# Altium integrated library FSC Logic Register.IntLib: 60 symbols (part 1 of 2)
Pins are listed as number, name and electrical type; pins without a type are passive.

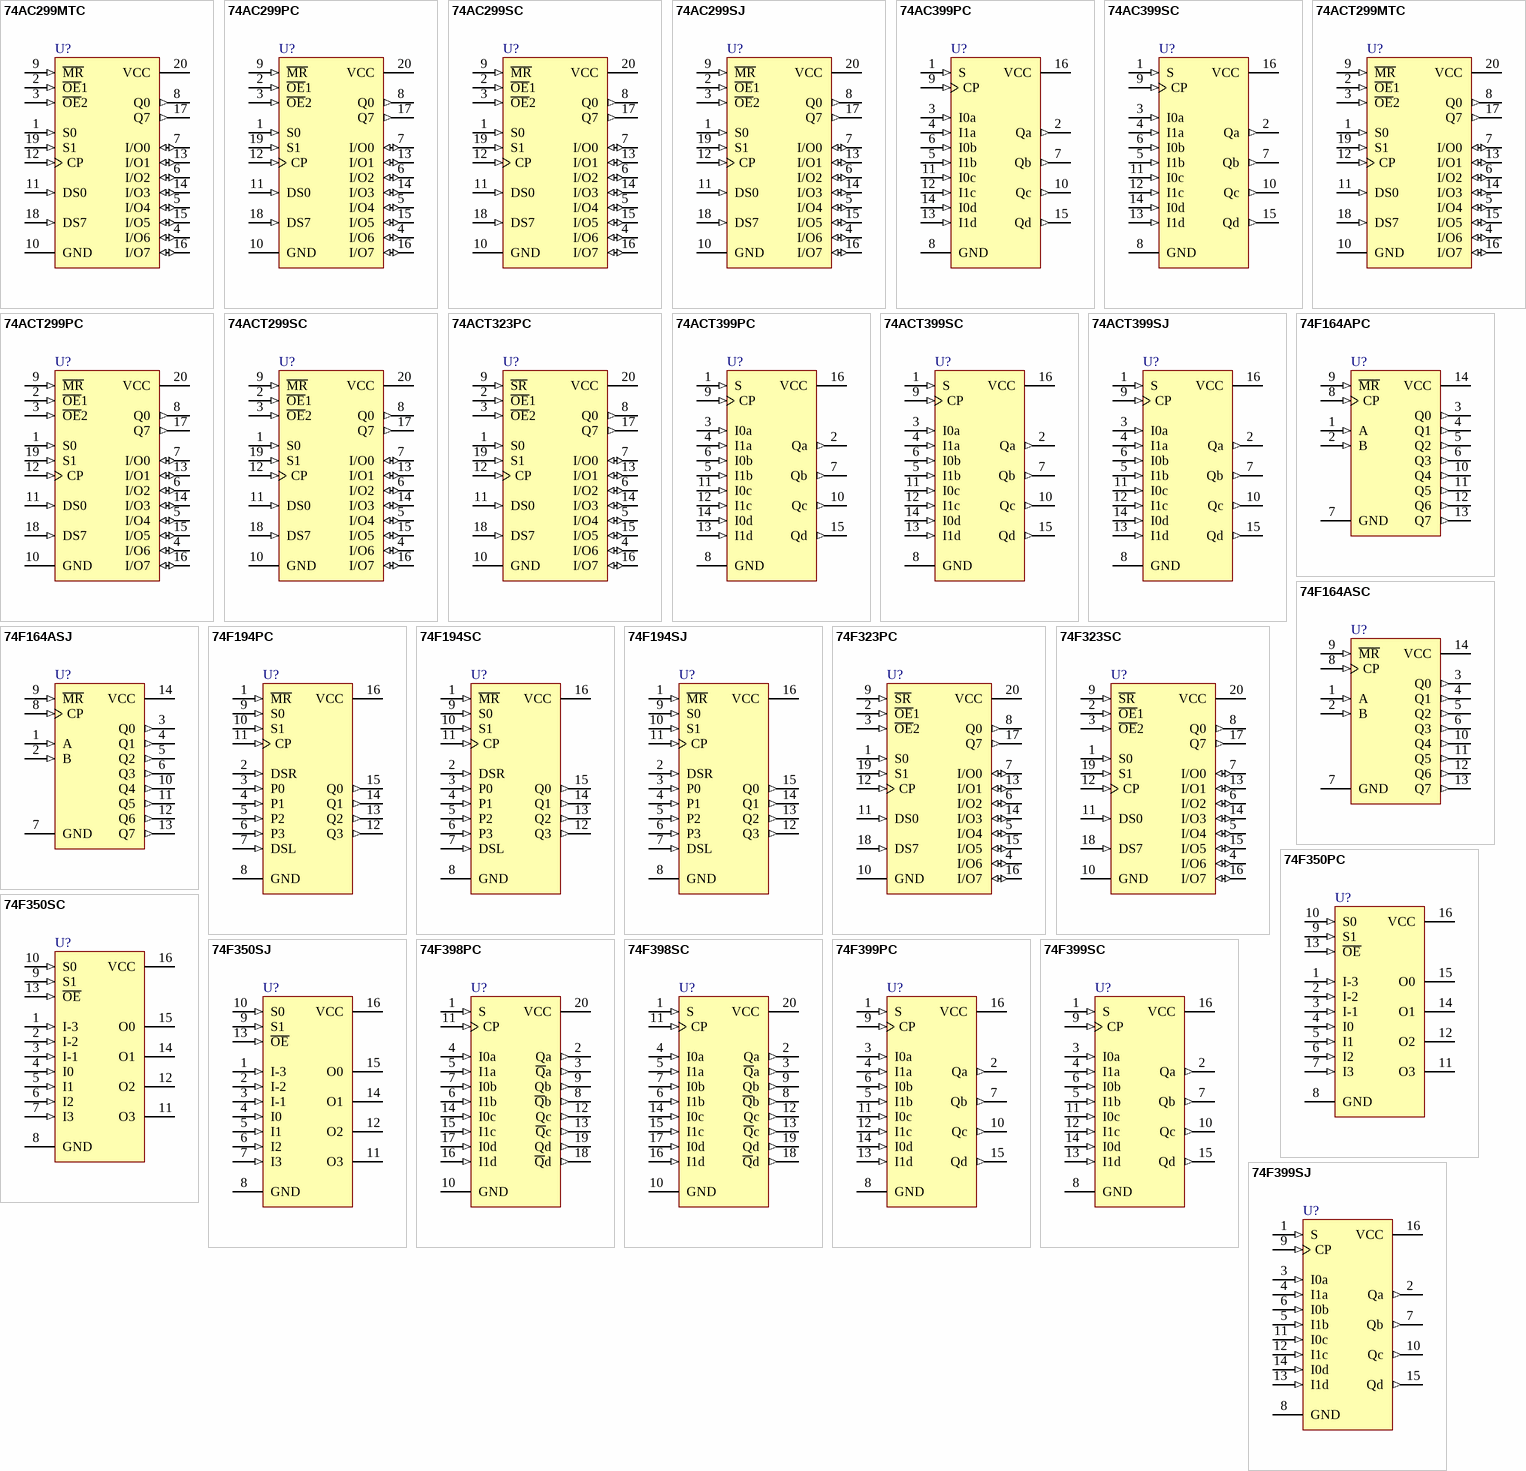
[diagram p0: symbols 74AC299MTC to 74F399SJ]

## 74AC299MTC
designator U?
8-Input Universal Shift/Storage Register with Common Parallel I/O Pin; Published: 17-Jul-2002; LatestRevisionDate: 29-May-2009; LatestRevisionNote: IPC-7351 Footprint Added.; DatasheetVersion: Nov-1999; PackageVersion: 2000; PackageReference: MTC20; Publisher: Altium Limited; PackageDescription: 20-Pin Thin Small Outline Package 0.65 mm Pitch; ComponentLink1Description: Manufacturer Link; ComponentLink1URL: http://www.fairchildsemi.com/; ComponentLink2Description: Datasheet; ComponentLink2URL: http://www.fairchildsemi.com/ds/74%2F74AC299.pdf
footprint MTC20_N (TSOP, 20-Leads, Body 6.5x4.4mm, Pitch 0.65mm, IPC Medium Density)
footprint MTC20_L (TSOP, 20-Leads, Body 6.5x4.4mm, Pitch 0.65mm, IPC High Density)
footprint MTC20_M (TSOP, 20-Leads, Body 6.5x4.4mm, Pitch 0.65mm, IPC Low Density)
3D model MTC20 (20-Pin Thin Small Outline Package 0.65 mm Pitch)
signal-integrity model 74AC299MTC
pins: 1 S0 (in), 2 ~{OE}1 (in), 3 ~{OE}2 (in), 4 I/O6 (io), 5 I/O4 (io), 6 I/O2 (io), 7 I/O0 (io), 8 Q0 (out), 9 ~{MR} (in), 10 GND (power), 11 DS0 (in), 12 CP (in), 13 I/O1 (io), 14 I/O3 (io), 15 I/O5 (io), 16 I/O7 (io), 17 Q7 (out), 18 DS7 (in), 19 S1 (in), 20 VCC (power)

## 74AC299PC
designator U?
8-Input Universal Shift/Storage Register with Common Parallel I/O Pin; Published: 17-Jul-2002; LatestRevisionDate: 29-May-2009; LatestRevisionNote: Component Body Added.; DatasheetVersion: Nov-1999; PackageVersion: 2000; PackageReference: N20A; Publisher: Altium Limited; PackageDescription: DIP, 20-Pin, Row Spacing 7.62 mm, Pitch 2.54 mm; Code_JEDEC: MS-001-AD; ComponentLink1Description: Manufacturer Link; ComponentLink1URL: http://www.fairchildsemi.com/; ComponentLink2Description: Datasheet; ComponentLink2URL: http://www.fairchildsemi.com/ds/74%2F74AC299.pdf
footprint N20A (DIP, 20-Leads, Row Spacing 7.62mm, Pitch 2.54mm, Body 26.07x6.6mm)
3D model N20A (DIP, 20-Pin, Row Spacing 7.62 mm, Pitch 2.54 mm)
signal-integrity model 74AC299PC
pins: 1 S0 (in), 2 ~{OE}1 (in), 3 ~{OE}2 (in), 4 I/O6 (io), 5 I/O4 (io), 6 I/O2 (io), 7 I/O0 (io), 8 Q0 (out), 9 ~{MR} (in), 10 GND (power), 11 DS0 (in), 12 CP (in), 13 I/O1 (io), 14 I/O3 (io), 15 I/O5 (io), 16 I/O7 (io), 17 Q7 (out), 18 DS7 (in), 19 S1 (in), 20 VCC (power)

## 74AC299SC
designator U?
8-Input Universal Shift/Storage Register with Common Parallel I/O Pin; Published: 17-Jul-2002; LatestRevisionDate: 13-Apr-2006; LatestRevisionNote: IPC-7351 Footprint Added.; DatasheetVersion: Nov-1999; PackageVersion: 2000; PackageReference: M20B; Publisher: Altium Limited; PackageDescription: 20-Pin Small Outline Integrated Circuit 1.27 mm Pitch; Code_JEDEC: MS-013-AC; Code_IPC: SOIC127P1030-20; ComponentLink1Description: Manufacturer Link; ComponentLink1URL: http://www.fairchildsemi.com/; ComponentLink2Description: Datasheet; ComponentLink2URL: http://www.fairchildsemi.com/ds/74%2F74AC299.pdf
footprint M20B_N (SOIC, 20-Leads, Body 12.8x7.5mm, Pitch 1.27mm, IPC Medium Density)
footprint M20B_L (SOIC, 20-Leads, Body 12.8x7.5mm, Pitch 1.27mm, IPC High Density)
footprint M20B_M (SOIC, 20-Leads, Body 12.8x7.5mm, Pitch 1.27mm, IPC Low Density)
3D model M20B (20-Pin Small Outline Integrated Circuit 1.27 mm Pitch)
signal-integrity model 74AC299SC
pins: 1 S0 (in), 2 ~{OE}1 (in), 3 ~{OE}2 (in), 4 I/O6 (io), 5 I/O4 (io), 6 I/O2 (io), 7 I/O0 (io), 8 Q0 (out), 9 ~{MR} (in), 10 GND (power), 11 DS0 (in), 12 CP (in), 13 I/O1 (io), 14 I/O3 (io), 15 I/O5 (io), 16 I/O7 (io), 17 Q7 (out), 18 DS7 (in), 19 S1 (in), 20 VCC (power)

## 74AC299SJ
designator U?
8-Input Universal Shift/Storage Register with Common Parallel I/O Pin; Published: 17-Jul-2002; LatestRevisionDate: 13-Apr-2006; LatestRevisionNote: IPC-7351 Footprint Added.; DatasheetVersion: Nov-1999; PackageVersion: 2000; PackageReference: M20D; Publisher: Altium Limited; PackageDescription: 20-Pin Small Outline Package 1.27 mm Pitch; ComponentLink1Description: Manufacturer Link; ComponentLink1URL: http://www.fairchildsemi.com/; ComponentLink2Description: Datasheet; ComponentLink2URL: http://www.fairchildsemi.com/ds/74%2F74AC299.pdf
footprint M20D_N (SOP, 20-Leads, Body 12.6x5.3mm, Pitch 1.27mm, IPC Medium Density)
footprint M20D_L (SOP, 20-Leads, Body 12.6x5.3mm, Pitch 1.27mm, IPC High Density)
footprint M20D_M (SOP, 20-Leads, Body 12.6x5.3mm, Pitch 1.27mm, IPC Low Density)
3D model M20D (20-Pin Small Outline Package 1.27 mm Pitch)
signal-integrity model 74AC299SJ
pins: 1 S0 (in), 2 ~{OE}1 (in), 3 ~{OE}2 (in), 4 I/O6 (io), 5 I/O4 (io), 6 I/O2 (io), 7 I/O0 (io), 8 Q0 (out), 9 ~{MR} (in), 10 GND (power), 11 DS0 (in), 12 CP (in), 13 I/O1 (io), 14 I/O3 (io), 15 I/O5 (io), 16 I/O7 (io), 17 Q7 (out), 18 DS7 (in), 19 S1 (in), 20 VCC (power)

## 74AC399PC
designator U?
Quad 2-Port Register; Published: 17-Jul-2002; LatestRevisionDate: 29-May-2009; LatestRevisionNote: Component Body Added.; DatasheetVersion: Nov-1999; PackageVersion: 2000; PackageReference: N16E; Publisher: Altium Limited; PackageDescription: DIP, 16-Pin, Row Spacing 7.62 mm, Pitch 2.54 mm; ComponentLink1Description: Manufacturer Link; ComponentLink1URL: http://www.fairchildsemi.com/; ComponentLink2Description: Datasheet; ComponentLink2URL: http://www.fairchildsemi.com/ds/74%2F74ACT399.pdf
footprint N16E (DIP, 16-Leads, Row Spacing 7.62mm, Pitch 2.54mm, Body 19.3x6.35mm)
3D model N16E (DIP, 16-Pin, Row Spacing 7.62 mm, Pitch 2.54 mm)
signal-integrity model 74AC399PC
pins: 1 S (in), 2 Qa (out), 3 I0a (in), 4 I1a (in), 5 I1b (in), 6 I0b (in), 7 Qb (out), 8 GND (power), 9 CP (in), 10 Qc (out), 11 I0c (in), 12 I1c (in), 13 I1d (in), 14 I0d (in), 15 Qd (out), 16 VCC (power)

## 74AC399SC
designator U?
Quad 2-Port Register; Published: 17-Jul-2002; LatestRevisionDate: 13-Apr-2006; LatestRevisionNote: IPC-7351 Footprint Added.; DatasheetVersion: Nov-1999; PackageVersion: 2000; PackageReference: M16A; Publisher: Altium Limited; PackageDescription: 16-Pin Small Outline Integrated Circuit 1.27 mm Pitch; Code_IPC: SOIC127P600-16; ComponentLink1Description: Manufacturer Link; ComponentLink1URL: http://www.fairchildsemi.com/; ComponentLink2Description: Datasheet; ComponentLink2URL: http://www.fairchildsemi.com/ds/74%2F74ACT399.pdf
footprint M16A_N (SOIC, 16-Leads, Body 9.9x3.9mm, Pitch 1.27mm, IPC Medium Density)
footprint M16A_L (SOIC, 16-Leads, Body 9.9x3.9mm, Pitch 1.27mm, IPC High Density)
footprint M16A_M (SOIC, 16-Leads, Body 9.9x3.9mm, Pitch 1.27mm, IPC Low Density)
3D model M16A (16-Pin Small Outline Integrated Circuit 1.27 mm Pitch)
signal-integrity model 74AC399SC
pins: 1 S (in), 2 Qa (out), 3 I0a (in), 4 I1a (in), 5 I1b (in), 6 I0b (in), 7 Qb (out), 8 GND (power), 9 CP (in), 10 Qc (out), 11 I0c (in), 12 I1c (in), 13 I1d (in), 14 I0d (in), 15 Qd (out), 16 VCC (power)

## 74ACT299MTC
designator U?
8-Input Universal Shift/Storage Register with Common Parallel I/O Pin; Published: 17-Jul-2002; LatestRevisionDate: 29-May-2009; LatestRevisionNote: IPC-7351 Footprint Added.; DatasheetVersion: Nov-1999; PackageVersion: 2000; PackageReference: MTC20; Publisher: Altium Limited; PackageDescription: 20-Pin Thin Small Outline Package 0.65 mm Pitch; ComponentLink1Description: Manufacturer Link; ComponentLink1URL: http://www.fairchildsemi.com/; ComponentLink2Description: Datasheet; ComponentLink2URL: http://www.fairchildsemi.com/ds/74%2F74AC299.pdf
footprint MTC20_N (TSOP, 20-Leads, Body 6.5x4.4mm, Pitch 0.65mm, IPC Medium Density)
footprint MTC20_L (TSOP, 20-Leads, Body 6.5x4.4mm, Pitch 0.65mm, IPC High Density)
footprint MTC20_M (TSOP, 20-Leads, Body 6.5x4.4mm, Pitch 0.65mm, IPC Low Density)
3D model MTC20 (20-Pin Thin Small Outline Package 0.65 mm Pitch)
signal-integrity model 74ACT299MTC
pins: 1 S0 (in), 2 ~{OE}1 (in), 3 ~{OE}2 (in), 4 I/O6 (io), 5 I/O4 (io), 6 I/O2 (io), 7 I/O0 (io), 8 Q0 (out), 9 ~{MR} (in), 10 GND (power), 11 DS0 (in), 12 CP (in), 13 I/O1 (io), 14 I/O3 (io), 15 I/O5 (io), 16 I/O7 (io), 17 Q7 (out), 18 DS7 (in), 19 S1 (in), 20 VCC (power)

## 74ACT299PC
designator U?
8-Input Universal Shift/Storage Register with Common Parallel I/O Pin; Published: 17-Jul-2002; LatestRevisionDate: 29-May-2009; LatestRevisionNote: Component Body Added.; DatasheetVersion: Nov-1999; PackageVersion: 2000; PackageReference: N20A; Publisher: Altium Limited; PackageDescription: DIP, 20-Pin, Row Spacing 7.62 mm, Pitch 2.54 mm; Code_JEDEC: MS-001-AD; ComponentLink1Description: Manufacturer Link; ComponentLink1URL: http://www.fairchildsemi.com/; ComponentLink2Description: Datasheet; ComponentLink2URL: http://www.fairchildsemi.com/ds/74%2F74AC299.pdf
footprint N20A (DIP, 20-Leads, Row Spacing 7.62mm, Pitch 2.54mm, Body 26.07x6.6mm)
3D model N20A (DIP, 20-Pin, Row Spacing 7.62 mm, Pitch 2.54 mm)
signal-integrity model 74ACT299PC
pins: 1 S0 (in), 2 ~{OE}1 (in), 3 ~{OE}2 (in), 4 I/O6 (io), 5 I/O4 (io), 6 I/O2 (io), 7 I/O0 (io), 8 Q0 (out), 9 ~{MR} (in), 10 GND (power), 11 DS0 (in), 12 CP (in), 13 I/O1 (io), 14 I/O3 (io), 15 I/O5 (io), 16 I/O7 (io), 17 Q7 (out), 18 DS7 (in), 19 S1 (in), 20 VCC (power)

## 74ACT299SC
designator U?
8-Input Universal Shift/Storage Register with Common Parallel I/O Pin; Published: 17-Jul-2002; LatestRevisionDate: 13-Apr-2006; LatestRevisionNote: IPC-7351 Footprint Added.; DatasheetVersion: Nov-1999; PackageVersion: 2000; PackageReference: M20B; Publisher: Altium Limited; PackageDescription: 20-Pin Small Outline Integrated Circuit 1.27 mm Pitch; Code_JEDEC: MS-013-AC; Code_IPC: SOIC127P1030-20; ComponentLink1Description: Manufacturer Link; ComponentLink1URL: http://www.fairchildsemi.com/; ComponentLink2Description: Datasheet; ComponentLink2URL: http://www.fairchildsemi.com/ds/74%2F74AC299.pdf
footprint M20B_N (SOIC, 20-Leads, Body 12.8x7.5mm, Pitch 1.27mm, IPC Medium Density)
footprint M20B_L (SOIC, 20-Leads, Body 12.8x7.5mm, Pitch 1.27mm, IPC High Density)
footprint M20B_M (SOIC, 20-Leads, Body 12.8x7.5mm, Pitch 1.27mm, IPC Low Density)
3D model M20B (20-Pin Small Outline Integrated Circuit 1.27 mm Pitch)
signal-integrity model 74ACT299SC
pins: 1 S0 (in), 2 ~{OE}1 (in), 3 ~{OE}2 (in), 4 I/O6 (io), 5 I/O4 (io), 6 I/O2 (io), 7 I/O0 (io), 8 Q0 (out), 9 ~{MR} (in), 10 GND (power), 11 DS0 (in), 12 CP (in), 13 I/O1 (io), 14 I/O3 (io), 15 I/O5 (io), 16 I/O7 (io), 17 Q7 (out), 18 DS7 (in), 19 S1 (in), 20 VCC (power)

## 74ACT323PC
designator U?
8-Bit Universal Shift/Storage Register with Synchronous Reset and Common I/O Pin; Published: 17-Jul-2002; LatestRevisionDate: 29-May-2009; LatestRevisionNote: Component Body Added.; DatasheetVersion: Oct-1998; PackageVersion: 2000; PackageReference: N20A; Publisher: Altium Limited; PackageDescription: DIP, 20-Pin, Row Spacing 7.62 mm, Pitch 2.54 mm; Code_JEDEC: MS-001-AD; ComponentLink1Description: Manufacturer Link; ComponentLink1URL: http://www.fairchildsemi.com/; ComponentLink2Description: Datasheet; ComponentLink2URL: http://www.fairchildsemi.com/ds/74%2F74ACT323.pdf
footprint N20A (DIP, 20-Leads, Row Spacing 7.62mm, Pitch 2.54mm, Body 26.07x6.6mm)
3D model N20A (DIP, 20-Pin, Row Spacing 7.62 mm, Pitch 2.54 mm)
signal-integrity model 74ACT323PC
pins: 1 S0 (in), 2 ~{OE}1 (in), 3 ~{OE}2 (in), 4 I/O6 (io), 5 I/O4 (io), 6 I/O2 (io), 7 I/O0 (io), 8 Q0 (out), 9 ~{SR} (in), 10 GND (power), 11 DS0 (in), 12 CP (in), 13 I/O1 (io), 14 I/O3 (io), 15 I/O5 (io), 16 I/O7 (io), 17 Q7 (out), 18 DS7 (in), 19 S1 (in), 20 VCC (power)

## 74ACT399PC
designator U?
Quad 2-Port Register; Published: 17-Jul-2002; LatestRevisionDate: 29-May-2009; LatestRevisionNote: Component Body Added.; DatasheetVersion: Nov-1999; PackageVersion: 2000; PackageReference: N16E; Publisher: Altium Limited; PackageDescription: DIP, 16-Pin, Row Spacing 7.62 mm, Pitch 2.54 mm; ComponentLink1Description: Manufacturer Link; ComponentLink1URL: http://www.fairchildsemi.com/; ComponentLink2Description: Datasheet; ComponentLink2URL: http://www.fairchildsemi.com/ds/74%2F74ACT399.pdf
footprint N16E (DIP, 16-Leads, Row Spacing 7.62mm, Pitch 2.54mm, Body 19.3x6.35mm)
3D model N16E (DIP, 16-Pin, Row Spacing 7.62 mm, Pitch 2.54 mm)
signal-integrity model 74ACT399PC
pins: 1 S (in), 2 Qa (out), 3 I0a (in), 4 I1a (in), 5 I1b (in), 6 I0b (in), 7 Qb (out), 8 GND (power), 9 CP (in), 10 Qc (out), 11 I0c (in), 12 I1c (in), 13 I1d (in), 14 I0d (in), 15 Qd (out), 16 VCC (power)

## 74ACT399SC
designator U?
Quad 2-Port Register; Published: 17-Jul-2002; LatestRevisionDate: 13-Apr-2006; LatestRevisionNote: IPC-7351 Footprint Added.; DatasheetVersion: Nov-1999; PackageVersion: 2000; PackageReference: M16A; Publisher: Altium Limited; PackageDescription: 16-Pin Small Outline Integrated Circuit 1.27 mm Pitch; Code_IPC: SOIC127P600-16; ComponentLink1Description: Manufacturer Link; ComponentLink1URL: http://www.fairchildsemi.com/; ComponentLink2Description: Datasheet; ComponentLink2URL: http://www.fairchildsemi.com/ds/74%2F74ACT399.pdf
footprint M16A_N (SOIC, 16-Leads, Body 9.9x3.9mm, Pitch 1.27mm, IPC Medium Density)
footprint M16A_L (SOIC, 16-Leads, Body 9.9x3.9mm, Pitch 1.27mm, IPC High Density)
footprint M16A_M (SOIC, 16-Leads, Body 9.9x3.9mm, Pitch 1.27mm, IPC Low Density)
3D model M16A (16-Pin Small Outline Integrated Circuit 1.27 mm Pitch)
signal-integrity model 74ACT399SC
pins: 1 S (in), 2 Qa (out), 3 I0a (in), 4 I1a (in), 5 I1b (in), 6 I0b (in), 7 Qb (out), 8 GND (power), 9 CP (in), 10 Qc (out), 11 I0c (in), 12 I1c (in), 13 I1d (in), 14 I0d (in), 15 Qd (out), 16 VCC (power)

## 74ACT399SJ
designator U?
Quad 2-Port Register; Published: 17-Jul-2002; LatestRevisionDate: 13-Apr-2006; LatestRevisionNote: IPC-7351 Footprint Added.; DatasheetVersion: Nov-1999; PackageVersion: 2000; PackageReference: M16D; Publisher: Altium Limited; PackageDescription: 16-Pin Small Outline Package 1.27 mm Pitch; ComponentLink1Description: Manufacturer Link; ComponentLink1URL: http://www.fairchildsemi.com/; ComponentLink2Description: Datasheet; ComponentLink2URL: http://www.fairchildsemi.com/ds/74%2F74ACT399.pdf
footprint M16D_N (SOP, 16-Leads, Body 10.1x5.3mm, Pitch 1.27mm, IPC Medium Density)
footprint M16D_L (SOP, 16-Leads, Body 10.1x5.3mm, Pitch 1.27mm, IPC High Density)
footprint M16D_M (SOP, 16-Leads, Body 10.1x5.3mm, Pitch 1.27mm, IPC Low Density)
3D model M16D (16-Pin Small Outline Package 1.27 mm Pitch)
signal-integrity model 74ACT399SJ
pins: 1 S (in), 2 Qa (out), 3 I0a (in), 4 I1a (in), 5 I1b (in), 6 I0b (in), 7 Qb (out), 8 GND (power), 9 CP (in), 10 Qc (out), 11 I0c (in), 12 I1c (in), 13 I1d (in), 14 I0d (in), 15 Qd (out), 16 VCC (power)

## 74F164APC
designator U?
Serial-In, Parallel-Out Shift Register; Note: Generic simulation model provided.; Published: 17-Jul-2002; LatestRevisionDate: 29-May-2009; LatestRevisionNote: Component Body Added.; DatasheetVersion: Aug-1999; PackageVersion: 2000; PackageReference: N14A; Publisher: Altium Limited; PackageDescription: DIP, 14-Pin, Row Spacing 7.62 mm, Pitch 2.54 mm; ComponentLink1Description: Manufacturer Link; ComponentLink1URL: http://www.fairchildsemi.com/; ComponentLink2Description: Datasheet; ComponentLink2URL: http://www.fairchildsemi.com/ds/74%2F74F164A.pdf
footprint N14A (DIP, 14-Leads, Row Spacing 7.62mm, Pitch 2.54mm, Body 19.18x6.35mm)
3D model N14A (DIP, 14-Pin, Row Spacing 7.62 mm, Pitch 2.54 mm)
simulation model 74F164 (SIMCODE)
signal-integrity model 74F164APC
pins: 1 A (in), 2 B (in), 3 Q0 (out), 4 Q1 (out), 5 Q2 (out), 6 Q3 (out), 7 GND (power), 8 CP (in), 9 ~{MR} (in), 10 Q4 (out), 11 Q5 (out), 12 Q6 (out), 13 Q7 (out), 14 VCC (power)

## 74F164ASC
designator U?
Serial-In, Parallel-Out Shift Register; Note: Generic simulation model provided.; Published: 17-Jul-2002; LatestRevisionDate: 13-Apr-2006; LatestRevisionNote: IPC-7351 Footprint Added.; DatasheetVersion: Aug-1999; PackageVersion: 2000; PackageReference: M14A; Publisher: Altium Limited; PackageDescription: 14-Pin Small Outline Integrated Circuit 1.27 mm Pitch; Code_IPC: SOIC127P600-14; ComponentLink1Description: Manufacturer Link; ComponentLink1URL: http://www.fairchildsemi.com/; ComponentLink2Description: Datasheet; ComponentLink2URL: http://www.fairchildsemi.com/ds/74%2F74F164A.pdf
footprint M14A_N (SOIC, 14-Leads, Body 8.6x3.9mm, Pitch 1.27mm, IPC Medium Density)
footprint M14A_L (SOIC, 14-Leads, Body 8.6x3.9mm, Pitch 1.27mm, IPC High Density)
footprint M14A_M (SOIC, 14-Leads, Body 8.6x3.9mm, Pitch 1.27mm, IPC Low Density)
3D model M14A (14-Pin Small Outline Integrated Circuit 1.27 mm Pitch)
simulation model 74F164 (SIMCODE)
signal-integrity model 74F164ASC
pins: 1 A (in), 2 B (in), 3 Q0 (out), 4 Q1 (out), 5 Q2 (out), 6 Q3 (out), 7 GND (power), 8 CP (in), 9 ~{MR} (in), 10 Q4 (out), 11 Q5 (out), 12 Q6 (out), 13 Q7 (out), 14 VCC (power)

## 74F164ASJ
designator U?
Serial-In, Parallel-Out Shift Register; Note: Generic simulation model provided.; Published: 17-Jul-2002; LatestRevisionDate: 13-Apr-2006; LatestRevisionNote: IPC-7351 Footprint Added.; DatasheetVersion: Aug-1999; PackageVersion: 2000; PackageReference: M14D; Publisher: Altium Limited; PackageDescription: 14-Pin Small Outline Package 1.27 mm Pitch; ComponentLink1Description: Manufacturer Link; ComponentLink1URL: http://www.fairchildsemi.com/; ComponentLink2Description: Datasheet; ComponentLink2URL: http://www.fairchildsemi.com/ds/74%2F74F164A.pdf
footprint M14D_N (SOP, 14-Leads, Body 10.1x5.3mm, Pitch 1.27mm, IPC Medium Density)
footprint M14D_L (SOP, 14-Leads, Body 10.1x5.3mm, Pitch 1.27mm, IPC High Density)
footprint M14D_M (SOP, 14-Leads, Body 10.1x5.3mm, Pitch 1.27mm, IPC Low Density)
3D model M14D (14-Pin Small Outline Package 1.27 mm Pitch)
simulation model 74F164 (SIMCODE)
signal-integrity model 74F164ASJ
pins: 1 A (in), 2 B (in), 3 Q0 (out), 4 Q1 (out), 5 Q2 (out), 6 Q3 (out), 7 GND (power), 8 CP (in), 9 ~{MR} (in), 10 Q4 (out), 11 Q5 (out), 12 Q6 (out), 13 Q7 (out), 14 VCC (power)

## 74F194PC
designator U?
4-Bit Bidirectional Universal Shift Register; Note: Generic simulation model provided.; Published: 17-Jul-2002; LatestRevisionDate: 29-May-2009; LatestRevisionNote: Component Body Added.; DatasheetVersion: Jul-1999; PackageVersion: 2000; PackageReference: N16E; Publisher: Altium Limited; PackageDescription: DIP, 16-Pin, Row Spacing 7.62 mm, Pitch 2.54 mm; ComponentLink1Description: Manufacturer Link; ComponentLink1URL: http://www.fairchildsemi.com/; ComponentLink2Description: Datasheet; ComponentLink2URL: http://www.fairchildsemi.com/ds/74%2F74F194.pdf
footprint N16E (DIP, 16-Leads, Row Spacing 7.62mm, Pitch 2.54mm, Body 19.3x6.35mm)
3D model N16E (DIP, 16-Pin, Row Spacing 7.62 mm, Pitch 2.54 mm)
simulation model 74F194 (SIMCODE)
signal-integrity model 74F194PC
pins: 1 ~{MR} (in), 2 DSR (in), 3 P0 (in), 4 P1 (in), 5 P2 (in), 6 P3 (in), 7 DSL (in), 8 GND (power), 9 S0 (in), 10 S1 (in), 11 CP (in), 12 Q3 (out), 13 Q2 (out), 14 Q1 (out), 15 Q0 (out), 16 VCC (power)

## 74F194SC
designator U?
4-Bit Bidirectional Universal Shift Register; Note: Generic simulation model provided.; Published: 17-Jul-2002; LatestRevisionDate: 13-Apr-2006; LatestRevisionNote: IPC-7351 Footprint Added.; DatasheetVersion: Jul-1999; PackageVersion: 2000; PackageReference: M16A; Publisher: Altium Limited; PackageDescription: 16-Pin Small Outline Integrated Circuit 1.27 mm Pitch; Code_IPC: SOIC127P600-16; ComponentLink1Description: Manufacturer Link; ComponentLink1URL: http://www.fairchildsemi.com/; ComponentLink2Description: Datasheet; ComponentLink2URL: http://www.fairchildsemi.com/ds/74%2F74F194.pdf
footprint M16A_N (SOIC, 16-Leads, Body 9.9x3.9mm, Pitch 1.27mm, IPC Medium Density)
footprint M16A_L (SOIC, 16-Leads, Body 9.9x3.9mm, Pitch 1.27mm, IPC High Density)
footprint M16A_M (SOIC, 16-Leads, Body 9.9x3.9mm, Pitch 1.27mm, IPC Low Density)
3D model M16A (16-Pin Small Outline Integrated Circuit 1.27 mm Pitch)
simulation model 74F194 (SIMCODE)
signal-integrity model 74F194SC
pins: 1 ~{MR} (in), 2 DSR (in), 3 P0 (in), 4 P1 (in), 5 P2 (in), 6 P3 (in), 7 DSL (in), 8 GND (power), 9 S0 (in), 10 S1 (in), 11 CP (in), 12 Q3 (out), 13 Q2 (out), 14 Q1 (out), 15 Q0 (out), 16 VCC (power)

## 74F194SJ
designator U?
4-Bit Bidirectional Universal Shift Register; Note: Generic simulation model provided.; Published: 17-Jul-2002; LatestRevisionDate: 13-Apr-2006; LatestRevisionNote: IPC-7351 Footprint Added.; DatasheetVersion: Jul-1999; PackageVersion: 2000; PackageReference: M16D; Publisher: Altium Limited; PackageDescription: 16-Pin Small Outline Package 1.27 mm Pitch; ComponentLink1Description: Manufacturer Link; ComponentLink1URL: http://www.fairchildsemi.com/; ComponentLink2Description: Datasheet; ComponentLink2URL: http://www.fairchildsemi.com/ds/74%2F74F194.pdf
footprint M16D_N (SOP, 16-Leads, Body 10.1x5.3mm, Pitch 1.27mm, IPC Medium Density)
footprint M16D_L (SOP, 16-Leads, Body 10.1x5.3mm, Pitch 1.27mm, IPC High Density)
footprint M16D_M (SOP, 16-Leads, Body 10.1x5.3mm, Pitch 1.27mm, IPC Low Density)
3D model M16D (16-Pin Small Outline Package 1.27 mm Pitch)
simulation model 74F194 (SIMCODE)
signal-integrity model 74F194SJ
pins: 1 ~{MR} (in), 2 DSR (in), 3 P0 (in), 4 P1 (in), 5 P2 (in), 6 P3 (in), 7 DSL (in), 8 GND (power), 9 S0 (in), 10 S1 (in), 11 CP (in), 12 Q3 (out), 13 Q2 (out), 14 Q1 (out), 15 Q0 (out), 16 VCC (power)

## 74F323PC
designator U?
Octal Universal Shift/Storage Register with Synchronous Reset and Common I/O Pin; Published: 17-Jul-2002; LatestRevisionDate: 29-May-2009; LatestRevisionNote: Component Body Added.; DatasheetVersion: Aug-1999; PackageVersion: 2000; PackageReference: N20A; Publisher: Altium Limited; PackageDescription: DIP, 20-Pin, Row Spacing 7.62 mm, Pitch 2.54 mm; Code_JEDEC: MS-001-AD; ComponentLink1Description: Manufacturer Link; ComponentLink1URL: http://www.fairchildsemi.com/
footprint N20A (DIP, 20-Leads, Row Spacing 7.62mm, Pitch 2.54mm, Body 26.07x6.6mm)
3D model N20A (DIP, 20-Pin, Row Spacing 7.62 mm, Pitch 2.54 mm)
signal-integrity model 74F323PC
pins: 1 S0 (in), 2 ~{OE}1 (in), 3 ~{OE}2 (in), 4 I/O6 (io), 5 I/O4 (io), 6 I/O2 (io), 7 I/O0 (io), 8 Q0 (out), 9 ~{SR} (in), 10 GND (power), 11 DS0 (in), 12 CP (in), 13 I/O1 (io), 14 I/O3 (io), 15 I/O5 (io), 16 I/O7 (io), 17 Q7 (out), 18 DS7 (in), 19 S1 (in), 20 VCC (power)

## 74F323SC
designator U?
Octal Universal Shift/Storage Register with Synchronous Reset and Common I/O Pin; Published: 17-Jul-2002; LatestRevisionDate: 13-Apr-2006; LatestRevisionNote: IPC-7351 Footprint Added.; DatasheetVersion: Aug-1999; PackageVersion: 2000; PackageReference: M20B; Publisher: Altium Limited; PackageDescription: 20-Pin Small Outline Integrated Circuit 1.27 mm Pitch; Code_JEDEC: MS-013-AC; Code_IPC: SOIC127P1030-20; ComponentLink1Description: Manufacturer Link; ComponentLink1URL: http://www.fairchildsemi.com/
footprint M20B_N (SOIC, 20-Leads, Body 12.8x7.5mm, Pitch 1.27mm, IPC Medium Density)
footprint M20B_L (SOIC, 20-Leads, Body 12.8x7.5mm, Pitch 1.27mm, IPC High Density)
footprint M20B_M (SOIC, 20-Leads, Body 12.8x7.5mm, Pitch 1.27mm, IPC Low Density)
3D model M20B (20-Pin Small Outline Integrated Circuit 1.27 mm Pitch)
signal-integrity model 74F323SC
pins: 1 S0 (in), 2 ~{OE}1 (in), 3 ~{OE}2 (in), 4 I/O6 (io), 5 I/O4 (io), 6 I/O2 (io), 7 I/O0 (io), 8 Q0 (out), 9 ~{SR} (in), 10 GND (power), 11 DS0 (in), 12 CP (in), 13 I/O1 (io), 14 I/O3 (io), 15 I/O5 (io), 16 I/O7 (io), 17 Q7 (out), 18 DS7 (in), 19 S1 (in), 20 VCC (power)

## 74F350PC
designator U?
4-Bit Shifter with 3-State Outputs; Published: 17-Jul-2002; LatestRevisionDate: 29-May-2009; LatestRevisionNote: Component Body Added.; DatasheetVersion: Aug-1999; PackageVersion: 2000; PackageReference: N16E; Publisher: Altium Limited; PackageDescription: DIP, 16-Pin, Row Spacing 7.62 mm, Pitch 2.54 mm; ComponentLink1Description: Manufacturer Link; ComponentLink1URL: http://www.fairchildsemi.com/
footprint N16E (DIP, 16-Leads, Row Spacing 7.62mm, Pitch 2.54mm, Body 19.3x6.35mm)
3D model N16E (DIP, 16-Pin, Row Spacing 7.62 mm, Pitch 2.54 mm)
signal-integrity model 74F350PC
pins: 1 I-3 (in), 2 I-2 (in), 3 I-1 (in), 4 I0 (in), 5 I1 (in), 6 I2 (in), 7 I3 (in), 8 GND (power), 9 S1 (in), 10 S0 (in), 11 O3 (hiz), 12 O2 (hiz), 13 ~{OE} (in), 14 O1 (hiz), 15 O0 (hiz), 16 VCC (power)

## 74F350SC
designator U?
4-Bit Shifter with 3-State Outputs; Published: 17-Jul-2002; LatestRevisionDate: 13-Apr-2006; LatestRevisionNote: IPC-7351 Footprint Added.; DatasheetVersion: Aug-1999; PackageVersion: 2000; PackageReference: M16A; Publisher: Altium Limited; PackageDescription: 16-Pin Small Outline Integrated Circuit 1.27 mm Pitch; Code_IPC: SOIC127P600-16; ComponentLink1Description: Manufacturer Link; ComponentLink1URL: http://www.fairchildsemi.com/
footprint M16A_N (SOIC, 16-Leads, Body 9.9x3.9mm, Pitch 1.27mm, IPC Medium Density)
footprint M16A_L (SOIC, 16-Leads, Body 9.9x3.9mm, Pitch 1.27mm, IPC High Density)
footprint M16A_M (SOIC, 16-Leads, Body 9.9x3.9mm, Pitch 1.27mm, IPC Low Density)
3D model M16A (16-Pin Small Outline Integrated Circuit 1.27 mm Pitch)
signal-integrity model 74F350SC
pins: 1 I-3 (in), 2 I-2 (in), 3 I-1 (in), 4 I0 (in), 5 I1 (in), 6 I2 (in), 7 I3 (in), 8 GND (power), 9 S1 (in), 10 S0 (in), 11 O3 (hiz), 12 O2 (hiz), 13 ~{OE} (in), 14 O1 (hiz), 15 O0 (hiz), 16 VCC (power)

## 74F350SJ
designator U?
4-Bit Shifter with 3-State Outputs; Published: 17-Jul-2002; LatestRevisionDate: 13-Apr-2006; LatestRevisionNote: IPC-7351 Footprint Added.; DatasheetVersion: Aug-1999; PackageVersion: 2000; PackageReference: M16D; Publisher: Altium Limited; PackageDescription: 16-Pin Small Outline Package 1.27 mm Pitch; ComponentLink1Description: Manufacturer Link; ComponentLink1URL: http://www.fairchildsemi.com/
footprint M16D_N (SOP, 16-Leads, Body 10.1x5.3mm, Pitch 1.27mm, IPC Medium Density)
footprint M16D_L (SOP, 16-Leads, Body 10.1x5.3mm, Pitch 1.27mm, IPC High Density)
footprint M16D_M (SOP, 16-Leads, Body 10.1x5.3mm, Pitch 1.27mm, IPC Low Density)
3D model M16D (16-Pin Small Outline Package 1.27 mm Pitch)
signal-integrity model 74F350SJ
pins: 1 I-3 (in), 2 I-2 (in), 3 I-1 (in), 4 I0 (in), 5 I1 (in), 6 I2 (in), 7 I3 (in), 8 GND (power), 9 S1 (in), 10 S0 (in), 11 O3 (hiz), 12 O2 (hiz), 13 ~{OE} (in), 14 O1 (hiz), 15 O0 (hiz), 16 VCC (power)

## 74F398PC
designator U?
Quad 2-Port Register; Published: 17-Jul-2002; LatestRevisionDate: 29-May-2009; LatestRevisionNote: Component Body Added.; DatasheetVersion: Aug-1999; PackageVersion: 2000; PackageReference: N20A; Publisher: Altium Limited; PackageDescription: DIP, 20-Pin, Row Spacing 7.62 mm, Pitch 2.54 mm; Code_JEDEC: MS-001-AD; ComponentLink1Description: Manufacturer Link; ComponentLink1URL: http://www.fairchildsemi.com/
footprint N20A (DIP, 20-Leads, Row Spacing 7.62mm, Pitch 2.54mm, Body 26.07x6.6mm)
3D model N20A (DIP, 20-Pin, Row Spacing 7.62 mm, Pitch 2.54 mm)
signal-integrity model 74F398PC
pins: 1 S (in), 2 Qa (out), 3 ~{Q}a (out), 4 I0a (in), 5 I1a (in), 6 I1b (in), 7 I0b (in), 8 ~{Q}b (out), 9 Qb (out), 10 GND (power), 11 CP (in), 12 Qc (out), 13 ~{Q}c (out), 14 I0c (in), 15 I1c (in), 16 I1d (in), 17 I0d (in), 18 ~{Q}d (out), 19 Qd (out), 20 VCC (power)

## 74F398SC
designator U?
Quad 2-Port Register; Published: 17-Jul-2002; LatestRevisionDate: 13-Apr-2006; LatestRevisionNote: IPC-7351 Footprint Added.; DatasheetVersion: Aug-1999; PackageVersion: 2000; PackageReference: M20B; Publisher: Altium Limited; PackageDescription: 20-Pin Small Outline Integrated Circuit 1.27 mm Pitch; Code_JEDEC: MS-013-AC; Code_IPC: SOIC127P1030-20; ComponentLink1Description: Manufacturer Link; ComponentLink1URL: http://www.fairchildsemi.com/
footprint M20B_N (SOIC, 20-Leads, Body 12.8x7.5mm, Pitch 1.27mm, IPC Medium Density)
footprint M20B_L (SOIC, 20-Leads, Body 12.8x7.5mm, Pitch 1.27mm, IPC High Density)
footprint M20B_M (SOIC, 20-Leads, Body 12.8x7.5mm, Pitch 1.27mm, IPC Low Density)
3D model M20B (20-Pin Small Outline Integrated Circuit 1.27 mm Pitch)
signal-integrity model 74F398SC
pins: 1 S (in), 2 Qa (out), 3 ~{Q}a (out), 4 I0a (in), 5 I1a (in), 6 I1b (in), 7 I0b (in), 8 ~{Q}b (out), 9 Qb (out), 10 GND (power), 11 CP (in), 12 Qc (out), 13 ~{Q}c (out), 14 I0c (in), 15 I1c (in), 16 I1d (in), 17 I0d (in), 18 ~{Q}d (out), 19 Qd (out), 20 VCC (power)

## 74F399PC
designator U?
Quad 2-Port Register; Published: 17-Jul-2002; LatestRevisionDate: 29-May-2009; LatestRevisionNote: Component Body Added.; DatasheetVersion: Aug-1999; PackageVersion: 2000; PackageReference: N16E; Publisher: Altium Limited; PackageDescription: DIP, 16-Pin, Row Spacing 7.62 mm, Pitch 2.54 mm; ComponentLink1Description: Manufacturer Link; ComponentLink1URL: http://www.fairchildsemi.com/
footprint N16E (DIP, 16-Leads, Row Spacing 7.62mm, Pitch 2.54mm, Body 19.3x6.35mm)
3D model N16E (DIP, 16-Pin, Row Spacing 7.62 mm, Pitch 2.54 mm)
signal-integrity model 74F399PC
pins: 1 S (in), 2 Qa (out), 3 I0a (in), 4 I1a (in), 5 I1b (in), 6 I0b (in), 7 Qb (out), 8 GND (power), 9 CP (in), 10 Qc (out), 11 I0c (in), 12 I1c (in), 13 I1d (in), 14 I0d (in), 15 Qd (out), 16 VCC (power)

## 74F399SC
designator U?
Quad 2-Port Register; Published: 17-Jul-2002; LatestRevisionDate: 13-Apr-2006; LatestRevisionNote: IPC-7351 Footprint Added.; DatasheetVersion: Aug-1999; PackageVersion: 2000; PackageReference: M16A; Publisher: Altium Limited; PackageDescription: 16-Pin Small Outline Integrated Circuit 1.27 mm Pitch; Code_IPC: SOIC127P600-16; ComponentLink1Description: Manufacturer Link; ComponentLink1URL: http://www.fairchildsemi.com/
footprint M16A_N (SOIC, 16-Leads, Body 9.9x3.9mm, Pitch 1.27mm, IPC Medium Density)
footprint M16A_L (SOIC, 16-Leads, Body 9.9x3.9mm, Pitch 1.27mm, IPC High Density)
footprint M16A_M (SOIC, 16-Leads, Body 9.9x3.9mm, Pitch 1.27mm, IPC Low Density)
3D model M16A (16-Pin Small Outline Integrated Circuit 1.27 mm Pitch)
signal-integrity model 74F399SC
pins: 1 S (in), 2 Qa (out), 3 I0a (in), 4 I1a (in), 5 I1b (in), 6 I0b (in), 7 Qb (out), 8 GND (power), 9 CP (in), 10 Qc (out), 11 I0c (in), 12 I1c (in), 13 I1d (in), 14 I0d (in), 15 Qd (out), 16 VCC (power)

## 74F399SJ
designator U?
Quad 2-Port Register; Published: 17-Jul-2002; LatestRevisionDate: 13-Apr-2006; LatestRevisionNote: IPC-7351 Footprint Added.; DatasheetVersion: Aug-1999; PackageVersion: 2000; PackageReference: M16D; Publisher: Altium Limited; PackageDescription: 16-Pin Small Outline Package 1.27 mm Pitch; ComponentLink1Description: Manufacturer Link; ComponentLink1URL: http://www.fairchildsemi.com/
footprint M16D_N (SOP, 16-Leads, Body 10.1x5.3mm, Pitch 1.27mm, IPC Medium Density)
footprint M16D_L (SOP, 16-Leads, Body 10.1x5.3mm, Pitch 1.27mm, IPC High Density)
footprint M16D_M (SOP, 16-Leads, Body 10.1x5.3mm, Pitch 1.27mm, IPC Low Density)
3D model M16D (16-Pin Small Outline Package 1.27 mm Pitch)
signal-integrity model 74F399SJ
pins: 1 S (in), 2 Qa (out), 3 I0a (in), 4 I1a (in), 5 I1b (in), 6 I0b (in), 7 Qb (out), 8 GND (power), 9 CP (in), 10 Qc (out), 11 I0c (in), 12 I1c (in), 13 I1d (in), 14 I0d (in), 15 Qd (out), 16 VCC (power)

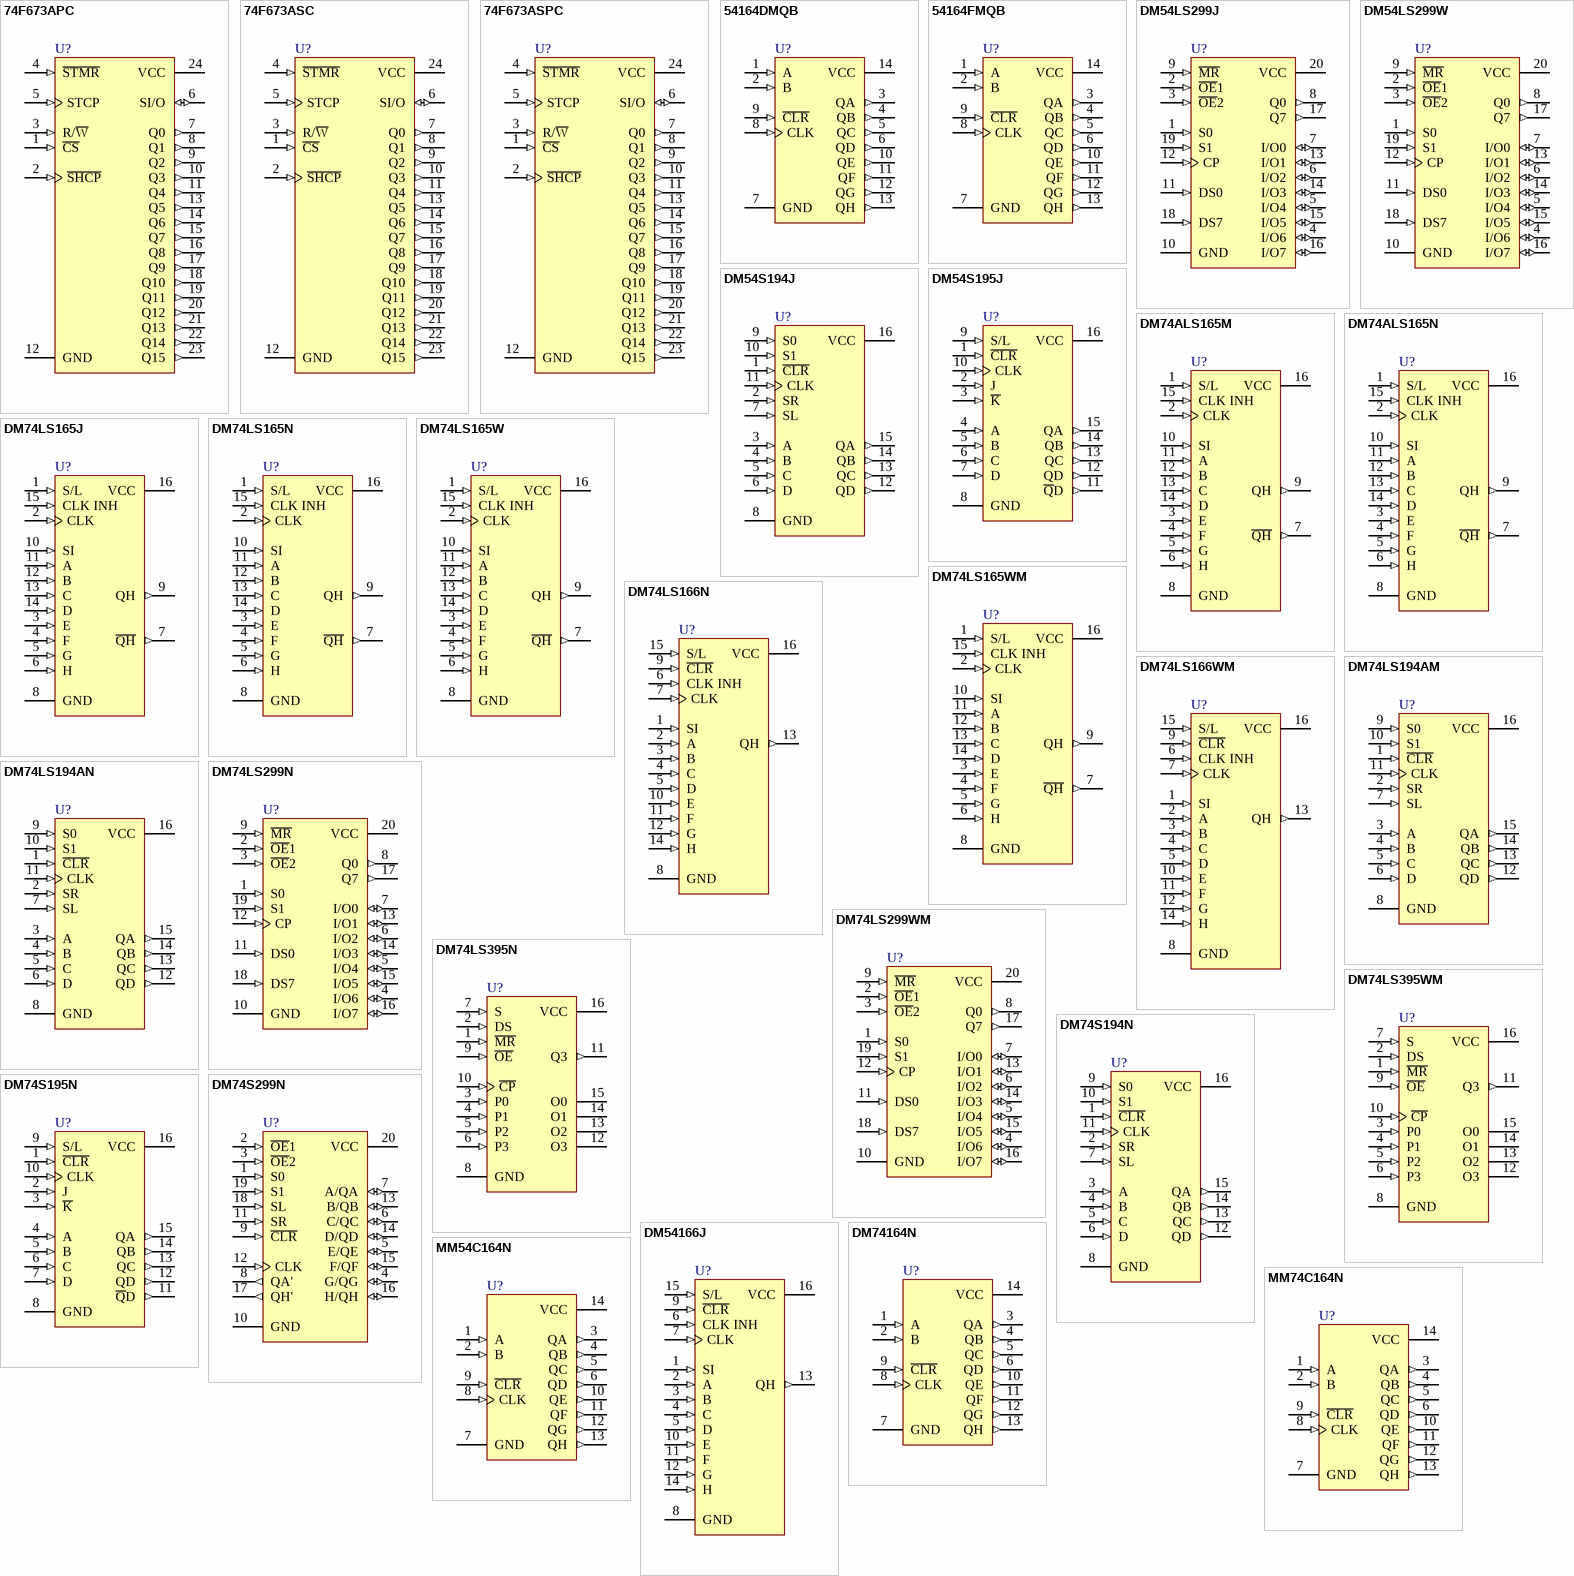
[diagram p1: symbols 74F673APC to MM74C164N]

## 74F673APC
designator U?
16-Bit Serial-In, Serial/Parallel-Out Shift Register; Published: 17-Jul-2002; LatestRevisionDate: 29-May-2009; LatestRevisionNote: Component Body Added.; DatasheetVersion: Aug-1999; PackageVersion: 2000; PackageReference: N24A; Publisher: Altium Limited; PackageDescription: DIP, 24-Pin, Row Spacing 15.24 mm, Pitch 2.54 mm; ComponentLink1Description: Manufacturer Link; ComponentLink1URL: http://www.fairchildsemi.com/; ComponentLink2Description: Datasheet; ComponentLink2URL: http://www.fairchildsemi.com/ds/74%2F74F673A.pdf
footprint N24A (DIP, 24-Leads, Row Spacing 15.24mm, Pitch 2.54mm, Body 31.92x13.72mm)
3D model N24A (DIP, 24-Pin, Row Spacing 15.24 mm, Pitch 2.54 mm)
signal-integrity model 74F673APC
pins: 1 ~{CS} (in), 2 ~{SHCP} (in), 3 R/~{W} (in), 4 ~{STMR} (in), 5 STCP (in), 6 SI/O (io), 7 Q0 (out), 8 Q1 (out), 9 Q2 (out), 10 Q3 (out), 11 Q4 (out), 12 GND (power), 13 Q5 (out), 14 Q6 (out), 15 Q7 (out), 16 Q8 (out), 17 Q9 (out), 18 Q10 (out), 19 Q11 (out), 20 Q12 (out), 21 Q13 (out), 22 Q14 (out), 23 Q15 (out), 24 VCC (power)

## 74F673ASC
designator U?
16-Bit Serial-In, Serial/Parallel-Out Shift Register; Published: 17-Jul-2002; LatestRevisionDate: 13-Apr-2006; LatestRevisionNote: IPC-7351 Footprint Added.; DatasheetVersion: Aug-1999; PackageVersion: 2000; PackageReference: M24B; Publisher: Altium Limited; PackageDescription: 24-Pin Small Outline Integrated Circuit 1.27 mm Pitch; ComponentLink1Description: Manufacturer Link; ComponentLink1URL: http://www.fairchildsemi.com/; ComponentLink2Description: Datasheet; ComponentLink2URL: http://www.fairchildsemi.com/ds/74%2F74F673A.pdf
footprint M24B_N (SOIC, 24-Leads, Body 15.4x7.5mm, Pitch 1.27mm, IPC Medium Density)
footprint M24B_L (SOIC, 24-Leads, Body 15.4x7.5mm, Pitch 1.27mm, IPC High Density)
footprint M24B_M (SOIC, 24-Leads, Body 15.4x7.5mm, Pitch 1.27mm, IPC Low Density)
3D model M24B (24-Pin Small Outline Integrated Circuit 1.27 mm Pitch)
signal-integrity model 74F673ASC
pins: 1 ~{CS} (in), 2 ~{SHCP} (in), 3 R/~{W} (in), 4 ~{STMR} (in), 5 STCP (in), 6 SI/O (io), 7 Q0 (out), 8 Q1 (out), 9 Q2 (out), 10 Q3 (out), 11 Q4 (out), 12 GND (power), 13 Q5 (out), 14 Q6 (out), 15 Q7 (out), 16 Q8 (out), 17 Q9 (out), 18 Q10 (out), 19 Q11 (out), 20 Q12 (out), 21 Q13 (out), 22 Q14 (out), 23 Q15 (out), 24 VCC (power)

## 74F673ASPC
designator U?
16-Bit Serial-In, Serial/Parallel-Out Shift Register; Published: 17-Jul-2002; LatestRevisionDate: 29-May-2009; LatestRevisionNote: Component Body Added.; DatasheetVersion: Aug-1999; PackageVersion: 2000; PackageReference: N24C; Publisher: Altium Limited; PackageDescription: DIP, 24-Pin, Row Spacing 7.62 mm, Pitch 2.54 mm; Code_JEDEC: MS-001-AF; ComponentLink1Description: Manufacturer Link; ComponentLink1URL: http://www.fairchildsemi.com/; ComponentLink2Description: Datasheet; ComponentLink2URL: http://www.fairchildsemi.com/ds/74%2F74F673A.pdf
footprint N24C (DIP, 24-Leads, Row Spacing 7.62mm, Pitch 2.54mm, Body 31.92x6.6mm)
3D model N24C (DIP, 24-Pin, Row Spacing 7.62 mm, Pitch 2.54 mm)
signal-integrity model 74F673ASPC
pins: 1 ~{CS} (in), 2 ~{SHCP} (in), 3 R/~{W} (in), 4 ~{STMR} (in), 5 STCP (in), 6 SI/O (io), 7 Q0 (out), 8 Q1 (out), 9 Q2 (out), 10 Q3 (out), 11 Q4 (out), 12 GND (power), 13 Q5 (out), 14 Q6 (out), 15 Q7 (out), 16 Q8 (out), 17 Q9 (out), 18 Q10 (out), 19 Q11 (out), 20 Q12 (out), 21 Q13 (out), 22 Q14 (out), 23 Q15 (out), 24 VCC (power)

## 54164DMQB
designator U?
8-Bit Serial In/Parallel Out Shift Register; Note: Generic simulation model provided.; Published: 17-Jul-2002; LatestRevisionDate: 29-May-2009; LatestRevisionNote: Component Body Added.; DatasheetVersion: Mar-1998; PackageVersion: 2000; PackageReference: J14A; Publisher: Altium Limited; PackageDescription: CerDIP, 14-Pin, Row Spacing 7.62 mm, Pitch 2.54 mm; ComponentLink1Description: Manufacturer Link; ComponentLink1URL: http://www.fairchildsemi.com/
footprint J14A (DIP, 14-Leads, Row Spacing 7.62mm, Pitch 2.54mm, Body 19.56x6.73mm)
3D model J14A (CerDIP, 14-Pin, Row Spacing 7.62 mm, Pitch 2.54 mm)
simulation model 74LS164 (SIMCODE)
signal-integrity model 54164DMQB
pins: 1 A (in), 2 B (in), 3 QA (out), 4 QB (out), 5 QC (out), 6 QD (out), 7 GND (power), 8 CLK (in), 9 ~{CLR} (in), 10 QE (out), 11 QF (out), 12 QG (out), 13 QH (out), 14 VCC (power)

## 54164FMQB
designator U?
8-Bit Serial In/Parallel Out Shift Register; Note: Generic simulation model provided.; Published: 17-Jul-2002; LatestRevisionDate: 29-May-2009; LatestRevisionNote: Component Body Added.; DatasheetVersion: Mar-1998; PackageVersion: 2000; PackageReference: N14A; Publisher: Altium Limited; PackageDescription: DIP, 14-Pin, Row Spacing 7.62 mm, Pitch 2.54 mm; ComponentLink1Description: Manufacturer Link; ComponentLink1URL: http://www.fairchildsemi.com/
footprint N14A (DIP, 14-Leads, Row Spacing 7.62mm, Pitch 2.54mm, Body 19.18x6.35mm)
3D model N14A (DIP, 14-Pin, Row Spacing 7.62 mm, Pitch 2.54 mm)
simulation model 74LS164 (SIMCODE)
signal-integrity model 54164FMQB
pins: 1 A (in), 2 B (in), 3 QA (out), 4 QB (out), 5 QC (out), 6 QD (out), 7 GND (power), 8 CLK (in), 9 ~{CLR} (in), 10 QE (out), 11 QF (out), 12 QG (out), 13 QH (out), 14 VCC (power)

## DM54LS299J
designator U?
8-Input Universal Shift/Storage Register with Common I/O Pin; Published: 17-Jul-2002; LatestRevisionDate: 29-May-2009; LatestRevisionNote: Component Body Added.; DatasheetVersion: Mar-1998; PackageVersion: 2000; PackageReference: J20A; Publisher: Altium Limited; PackageDescription: CerDIP, 20-Pin, Row Spacing 7.62 mm, Pitch 2.54 mm; Code_JEDEC: MS-015-AE; ComponentLink1Description: Manufacturer Link; ComponentLink1URL: http://www.fairchildsemi.com/
footprint J20A (DIP, 20-Leads, Row Spacing 7.62mm, Pitch 2.54mm, Body 24.62x6.73mm)
3D model J20A (CerDIP, 20-Pin, Row Spacing 7.62 mm, Pitch 2.54 mm)
signal-integrity model DM54LS299J
pins: 1 S0 (in), 2 ~{OE}1 (in), 3 ~{OE}2 (in), 4 I/O6 (io), 5 I/O4 (io), 6 I/O2 (io), 7 I/O0 (io), 8 Q0 (out), 9 ~{MR} (in), 10 GND (power), 11 DS0 (in), 12 CP (in), 13 I/O1 (io), 14 I/O3 (io), 15 I/O5 (io), 16 I/O7 (io), 17 Q7 (out), 18 DS7 (in), 19 S1 (in), 20 VCC (power)

## DM54LS299W
designator U?
8-Input Universal Shift/Storage Register with Common I/O Pin; Published: 17-Jul-2002; LatestRevisionDate: 13-Apr-2006; LatestRevisionNote: IPC-7351 Footprint Added.; DatasheetVersion: Mar-1998; PackageVersion: 2000; PackageReference: M20B; Publisher: Altium Limited; PackageDescription: 20-Pin Small Outline Integrated Circuit 1.27 mm Pitch; Code_JEDEC: MS-013-AC; Code_IPC: SOIC127P1030-20; ComponentLink1Description: Manufacturer Link; ComponentLink1URL: http://www.fairchildsemi.com/
footprint M20B_N (SOIC, 20-Leads, Body 12.8x7.5mm, Pitch 1.27mm, IPC Medium Density)
footprint M20B_L (SOIC, 20-Leads, Body 12.8x7.5mm, Pitch 1.27mm, IPC High Density)
footprint M20B_M (SOIC, 20-Leads, Body 12.8x7.5mm, Pitch 1.27mm, IPC Low Density)
3D model M20B (20-Pin Small Outline Integrated Circuit 1.27 mm Pitch)
signal-integrity model DM54LS299W
pins: 1 S0 (in), 2 ~{OE}1 (in), 3 ~{OE}2 (in), 4 I/O6 (io), 5 I/O4 (io), 6 I/O2 (io), 7 I/O0 (io), 8 Q0 (out), 9 ~{MR} (in), 10 GND (power), 11 DS0 (in), 12 CP (in), 13 I/O1 (io), 14 I/O3 (io), 15 I/O5 (io), 16 I/O7 (io), 17 Q7 (out), 18 DS7 (in), 19 S1 (in), 20 VCC (power)

## DM54S194J
designator U?
4-Bit Bidirectional Universal Shift Register; Note: Generic simulation model provided.; Published: 17-Jul-2002; LatestRevisionDate: 29-May-2009; LatestRevisionNote: Component Body Added.; DatasheetVersion: Mar-1998; PackageVersion: 2000; PackageReference: J16A; Publisher: Altium Limited; PackageDescription: CerDIP, 16-Pin, Row Spacing 7.62 mm, Pitch 2.54 mm; ComponentLink1Description: Manufacturer Link; ComponentLink1URL: http://www.fairchildsemi.com/
footprint J16A (DIP, 16-Leads, Row Spacing 7.62mm, Pitch 2.54mm, Body 19.56x6.73mm)
3D model N16E (CerDIP, 16-Pin, Row Spacing 7.62 mm, Pitch 2.54 mm)
simulation model 74LS194 (SIMCODE)
signal-integrity model DM54S194J
pins: 1 ~{CLR} (in), 2 SR (in), 3 A (in), 4 B (in), 5 C (in), 6 D (in), 7 SL (in), 8 GND (power), 9 S0 (in), 10 S1 (in), 11 CLK (in), 12 QD (out), 13 QC (out), 14 QB (out), 15 QA (out), 16 VCC (power)

## DM54S195J
designator U?
4-Bit Parallel Access Shift Register; Note: Generic simulation model provided.; Published: 17-Jul-2002; LatestRevisionDate: 29-May-2009; LatestRevisionNote: Component Body Added.; DatasheetVersion: Mar-1998; PackageVersion: 2000; PackageReference: J16A; Publisher: Altium Limited; PackageDescription: CerDIP, 16-Pin, Row Spacing 7.62 mm, Pitch 2.54 mm; ComponentLink1Description: Manufacturer Link; ComponentLink1URL: http://www.fairchildsemi.com/
footprint J16A (DIP, 16-Leads, Row Spacing 7.62mm, Pitch 2.54mm, Body 19.56x6.73mm)
3D model N16E (CerDIP, 16-Pin, Row Spacing 7.62 mm, Pitch 2.54 mm)
simulation model 74LS195 (SIMCODE)
signal-integrity model DM54S195J
pins: 1 ~{CLR} (in), 2 J (in), 3 ~{K} (in), 4 A (in), 5 B (in), 6 C (in), 7 D (in), 8 GND (power), 9 S/L (in), 10 CLK (in), 11 ~{Q}D (out), 12 QD (out), 13 QC (out), 14 QB (out), 15 QA (out), 16 VCC (power)

## DM74ALS165M
designator U?
8-Bit Parallel-In/Serial Out Shift Register; Note: Generic simulation model provided.; Published: 17-Jul-2002; LatestRevisionDate: 13-Apr-2006; LatestRevisionNote: IPC-7351 Footprint Added.; DatasheetVersion: Mar-1998; PackageVersion: 2000; PackageReference: M16A; Publisher: Altium Limited; PackageDescription: 16-Pin Small Outline Integrated Circuit 1.27 mm Pitch; Code_IPC: SOIC127P600-16; ComponentLink1Description: Manufacturer Link; ComponentLink1URL: http://www.fairchildsemi.com/; ComponentLink2Description: Datasheet; ComponentLink2URL: http://www.fairchildsemi.com/ds/DM%2FDM74ALS165.pdf
footprint M16A_N (SOIC, 16-Leads, Body 9.9x3.9mm, Pitch 1.27mm, IPC Medium Density)
footprint M16A_L (SOIC, 16-Leads, Body 9.9x3.9mm, Pitch 1.27mm, IPC High Density)
footprint M16A_M (SOIC, 16-Leads, Body 9.9x3.9mm, Pitch 1.27mm, IPC Low Density)
3D model M16A (16-Pin Small Outline Integrated Circuit 1.27 mm Pitch)
simulation model 74LS165 (SIMCODE)
signal-integrity model DM74ALS165M
pins: 1 S/L (in), 2 CLK (in), 3 E (in), 4 F (in), 5 G (in), 6 H (in), 7 ~{QH} (out), 8 GND (power), 9 QH (out), 10 SI (in), 11 A (in), 12 B (in), 13 C (in), 14 D (in), 15 CLK INH (in), 16 VCC (power)

## DM74ALS165N
designator U?
8-Bit Parallel-In/Serial Out Shift Register; Note: Generic simulation model provided.; Published: 17-Jul-2002; LatestRevisionDate: 29-May-2009; LatestRevisionNote: Component Body Added.; DatasheetVersion: Mar-1998; PackageVersion: 2000; PackageReference: N16A; Publisher: Altium Limited; PackageDescription: DIP, 16-Pin, Row Spacing 7.62 mm, Pitch 2.54 mm; ComponentLink1Description: Manufacturer Link; ComponentLink1URL: http://www.fairchildsemi.com/; ComponentLink2Description: Datasheet; ComponentLink2URL: http://www.fairchildsemi.com/ds/DM%2FDM74ALS165.pdf
footprint N16A (DIP, 16-Leads, Row Spacing 7.62mm, Pitch 2.54mm, Body 21.76x6.35mm)
3D model N16A (DIP, 16-Pin, Row Spacing 7.62 mm, Pitch 2.54 mm)
simulation model 74LS165 (SIMCODE)
signal-integrity model DM74ALS165N
pins: 1 S/L (in), 2 CLK (in), 3 E (in), 4 F (in), 5 G (in), 6 H (in), 7 ~{QH} (out), 8 GND (power), 9 QH (out), 10 SI (in), 11 A (in), 12 B (in), 13 C (in), 14 D (in), 15 CLK INH (in), 16 VCC (power)

## DM74LS165J
designator U?
8-Bit Parallel In/Serial Output Shift Register; Note: Generic simulation model provided.; Published: 17-Jul-2002; LatestRevisionDate: 29-May-2009; LatestRevisionNote: Component Body Added.; DatasheetVersion: Apr-1998; PackageVersion: 2000; PackageReference: J16A; Publisher: Altium Limited; PackageDescription: CerDIP, 16-Pin, Row Spacing 7.62 mm, Pitch 2.54 mm; ComponentLink1Description: Manufacturer Link; ComponentLink1URL: http://www.fairchildsemi.com/
footprint J16A (DIP, 16-Leads, Row Spacing 7.62mm, Pitch 2.54mm, Body 19.56x6.73mm)
3D model N16E (CerDIP, 16-Pin, Row Spacing 7.62 mm, Pitch 2.54 mm)
simulation model 74LS165 (SIMCODE)
signal-integrity model DM74LS165J
pins: 1 S/L (in), 2 CLK (in), 3 E (in), 4 F (in), 5 G (in), 6 H (in), 7 ~{QH} (out), 8 GND (power), 9 QH (out), 10 SI (in), 11 A (in), 12 B (in), 13 C (in), 14 D (in), 15 CLK INH (in), 16 VCC (power)

## DM74LS165N
designator U?
8-Bit Parallel In/Serial Output Shift Register; Note: Generic simulation model provided.; Published: 17-Jul-2002; LatestRevisionDate: 04-Mar-2005; LatestRevisionNote: Stylized 3D Model Added.; DatasheetVersion: Apr-1998; PackageVersion: 2000; PackageReference: W16A; Publisher: Altium Limited; PackageDescription: DFP; 16 Leads; Body 9.9 x 7.6 mm (LxW max); Pitch 1.27 mm; ComponentLink1Description: Manufacturer Link; ComponentLink1URL: http://www.fairchildsemi.com/
footprint W16A (DFP; 16 Leads; Body 9.9 x 7.6 mm (LxW max); Pitch 1.27 mm)
3D model W16A (DFP; 16 Leads; Body 9.9 x 7.6 mm (LxW max); Pitch 1.27 mm)
simulation model 74LS165 (SIMCODE)
signal-integrity model DM74LS165N
pins: 1 S/L (in), 2 CLK (in), 3 E (in), 4 F (in), 5 G (in), 6 H (in), 7 ~{QH} (out), 8 GND (power), 9 QH (out), 10 SI (in), 11 A (in), 12 B (in), 13 C (in), 14 D (in), 15 CLK INH (in), 16 VCC (power)

## DM74LS165W
designator U?
8-Bit Parallel In/Serial Output Shift Register; Note: Generic simulation model provided.; Published: 17-Jul-2002; LatestRevisionDate: 13-Apr-2006; LatestRevisionNote: IPC-7351 Footprint Added.; DatasheetVersion: Apr-1998; PackageVersion: 2000; PackageReference: M16B; Publisher: Altium Limited; PackageDescription: 16-Pin Small Outline Integrated Circuit 1.27 mm Pitch; Code_JEDEC: MS-013-AA; Code_IPC: SOIC127P1030-16; ComponentLink1Description: Manufacturer Link; ComponentLink1URL: http://www.fairchildsemi.com/
footprint M16B_N (SOIC, 16-Leads, Body 10.3x7.5mm, Pitch 1.27mm, IPC Medium Density)
footprint M16B_L (SOIC, 16-Leads, Body 10.3x7.5mm, Pitch 1.27mm, IPC High Density)
footprint M16B_M (SOIC, 16-Leads, Body 10.3x7.5mm, Pitch 1.27mm, IPC Low Density)
3D model M16B (16-Pin Small Outline Integrated Circuit 1.27 mm Pitch)
simulation model 74LS165 (SIMCODE)
signal-integrity model DM74LS165W
pins: 1 S/L (in), 2 CLK (in), 3 E (in), 4 F (in), 5 G (in), 6 H (in), 7 ~{QH} (out), 8 GND (power), 9 QH (out), 10 SI (in), 11 A (in), 12 B (in), 13 C (in), 14 D (in), 15 CLK INH (in), 16 VCC (power)

## DM74LS165WM
designator U?
8-Bit Parallel In/Serial Output Shift Register; Note: Generic simulation model provided.; Published: 17-Jul-2002; LatestRevisionDate: 29-May-2009; LatestRevisionNote: Component Body Added.; DatasheetVersion: Apr-1998; PackageVersion: 2000; PackageReference: N16E; Publisher: Altium Limited; PackageDescription: DIP, 16-Pin, Row Spacing 7.62 mm, Pitch 2.54 mm; ComponentLink1Description: Manufacturer Link; ComponentLink1URL: http://www.fairchildsemi.com/
footprint N16E (DIP, 16-Leads, Row Spacing 7.62mm, Pitch 2.54mm, Body 19.3x6.35mm)
3D model N16E (DIP, 16-Pin, Row Spacing 7.62 mm, Pitch 2.54 mm)
simulation model 74LS165 (SIMCODE)
signal-integrity model DM74LS165WM
pins: 1 S/L (in), 2 CLK (in), 3 E (in), 4 F (in), 5 G (in), 6 H (in), 7 ~{QH} (out), 8 GND (power), 9 QH (out), 10 SI (in), 11 A (in), 12 B (in), 13 C (in), 14 D (in), 15 CLK INH (in), 16 VCC (power)

## DM74LS166N
designator U?
8-Bit Parallel-In/Serial-Out Shift Register; Note: Generic simulation model provided.; Published: 17-Jul-2002; LatestRevisionDate: 29-May-2009; LatestRevisionNote: Component Body Added.; DatasheetVersion: Apr-1998; PackageVersion: 2000; PackageReference: N16A; Publisher: Altium Limited; PackageDescription: DIP, 16-Pin, Row Spacing 7.62 mm, Pitch 2.54 mm; ComponentLink1Description: Manufacturer Link; ComponentLink1URL: http://www.fairchildsemi.com/
footprint N16A (DIP, 16-Leads, Row Spacing 7.62mm, Pitch 2.54mm, Body 21.76x6.35mm)
3D model N16A (DIP, 16-Pin, Row Spacing 7.62 mm, Pitch 2.54 mm)
simulation model 74LS166 (SIMCODE)
signal-integrity model DM74LS166N
pins: 1 SI (in), 2 A (in), 3 B (in), 4 C (in), 5 D (in), 6 CLK INH (in), 7 CLK (in), 8 GND (power), 9 ~{CLR} (in), 10 E (in), 11 F (in), 12 G (in), 13 QH (out), 14 H (in), 15 S/L (in), 16 VCC (power)

## DM74LS166WM
designator U?
8-Bit Parallel-In/Serial-Out Shift Register; Note: Generic simulation model provided.; Published: 17-Jul-2002; LatestRevisionDate: 13-Apr-2006; LatestRevisionNote: IPC-7351 Footprint Added.; DatasheetVersion: Apr-1998; PackageVersion: 2000; PackageReference: M16B; Publisher: Altium Limited; PackageDescription: 16-Pin Small Outline Integrated Circuit 1.27 mm Pitch; Code_JEDEC: MS-013-AA; Code_IPC: SOIC127P1030-16; ComponentLink1Description: Manufacturer Link; ComponentLink1URL: http://www.fairchildsemi.com/
footprint M16B_N (SOIC, 16-Leads, Body 10.3x7.5mm, Pitch 1.27mm, IPC Medium Density)
footprint M16B_L (SOIC, 16-Leads, Body 10.3x7.5mm, Pitch 1.27mm, IPC High Density)
footprint M16B_M (SOIC, 16-Leads, Body 10.3x7.5mm, Pitch 1.27mm, IPC Low Density)
3D model M16B (16-Pin Small Outline Integrated Circuit 1.27 mm Pitch)
simulation model 74LS166 (SIMCODE)
signal-integrity model DM74LS166WM
pins: 1 SI (in), 2 A (in), 3 B (in), 4 C (in), 5 D (in), 6 CLK INH (in), 7 CLK (in), 8 GND (power), 9 ~{CLR} (in), 10 E (in), 11 F (in), 12 G (in), 13 QH (out), 14 H (in), 15 S/L (in), 16 VCC (power)

## DM74LS194AM
designator U?
4-Bit Bidirectional Universal Shift Register; Note: Generic simulation model provided.; Published: 17-Jul-2002; LatestRevisionDate: 13-Apr-2006; LatestRevisionNote: IPC-7351 Footprint Added.; DatasheetVersion: Nov-1999; PackageVersion: 2000; PackageReference: M16A; Publisher: Altium Limited; PackageDescription: 16-Pin Small Outline Integrated Circuit 1.27 mm Pitch; Code_IPC: SOIC127P600-16; ComponentLink1Description: Manufacturer Link; ComponentLink1URL: http://www.fairchildsemi.com/
footprint M16A_N (SOIC, 16-Leads, Body 9.9x3.9mm, Pitch 1.27mm, IPC Medium Density)
footprint M16A_L (SOIC, 16-Leads, Body 9.9x3.9mm, Pitch 1.27mm, IPC High Density)
footprint M16A_M (SOIC, 16-Leads, Body 9.9x3.9mm, Pitch 1.27mm, IPC Low Density)
3D model M16A (16-Pin Small Outline Integrated Circuit 1.27 mm Pitch)
simulation model 74LS194 (SIMCODE)
signal-integrity model DM74LS194AM
pins: 1 ~{CLR} (in), 2 SR (in), 3 A (in), 4 B (in), 5 C (in), 6 D (in), 7 SL (in), 8 GND (power), 9 S0 (in), 10 S1 (in), 11 CLK (in), 12 QD (out), 13 QC (out), 14 QB (out), 15 QA (out), 16 VCC (power)